# Altium footprint library CAPPR5-12.5x22.PcbLib: 1 footprints
Each footprint in its own frame and in the unit in brackets; x right, y up, seen from the top. Pads: shape width x height; smd on the part's side, far side on the other; paste and mask are expansions set on the pad; w line width, h text height; cw(c..) or ccw(c..) is an arc to the next point about the centre after c.
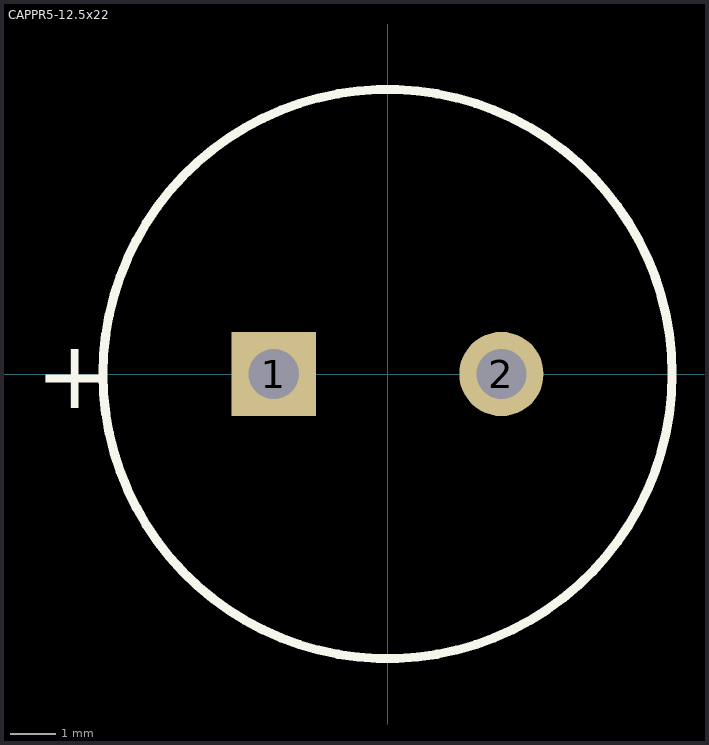
[diagram p0: the footprint, top view; thin cyan lines are the x and y axes]

## CAPPR5-12.5x22 [mm] "Capacitor, Electrolytic, Radial; Body 12.5 x 22 mm (Dia.xH typ); Pin Spacing 5 mm (typ)"
height 23
pads (2):
  rect 1.85x1.85 hole 1.1: 1(-2.5,0)
  round 1.85 hole 1.1: 2(2.5,0)
Top Overlay:
  circle w0.2: c0,0 r6.25
  text "+" at -7.725,-0.75 h1.5